# EAGLE library part MC14020BCPG (library ON Semiconductor_By_element14_Batch_1)
14-Bit Binary Counter
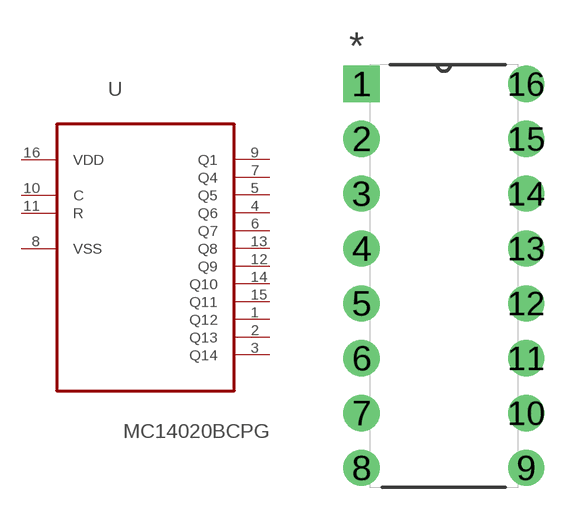
[diagram p210: symbol with the pads of DIP254P762X444-16; footprint DIP254P762X444-16]

Designator prefix U

## MC14020BCPG (MPN: MC14020BCPG; OC_FARNELL: 9665480; OC_NEWARK: 45J1027; PACKAGE: PDIP-16; SUPPLIER: On semiconductors)  [DIP254P762X444-16]
1  Q12  out
2  Q13  out
3  Q14  out
4  Q6  out
5  Q5  out
6  Q7  out
7  Q4  out
8  VSS  pwr
9  Q1  out
10  C  in
11  R  in
12  Q9  out
13  Q8  out
14  Q10  out
15  Q11  out
16  VDD  pwr

## Footprint DIP254P762X444-16 (pad centres in mm)
drill 1.118 square: 1 -7.62,17.78
drill 1.118: 2 -7.62,15.24; 3 -7.62,12.7; 4 -7.62,10.16; 5 -7.62,7.62; 6 -7.62,5.08; 7 -7.62,2.54; 8 -7.62,0; 9 0,0; 10 0,2.54; 11 0,5.08; 12 0,7.62; 13 0,10.16; 14 0,12.7; 15 0,15.24; 16 0,17.78